# EAGLE library part M.2_KEY-E (library Public)
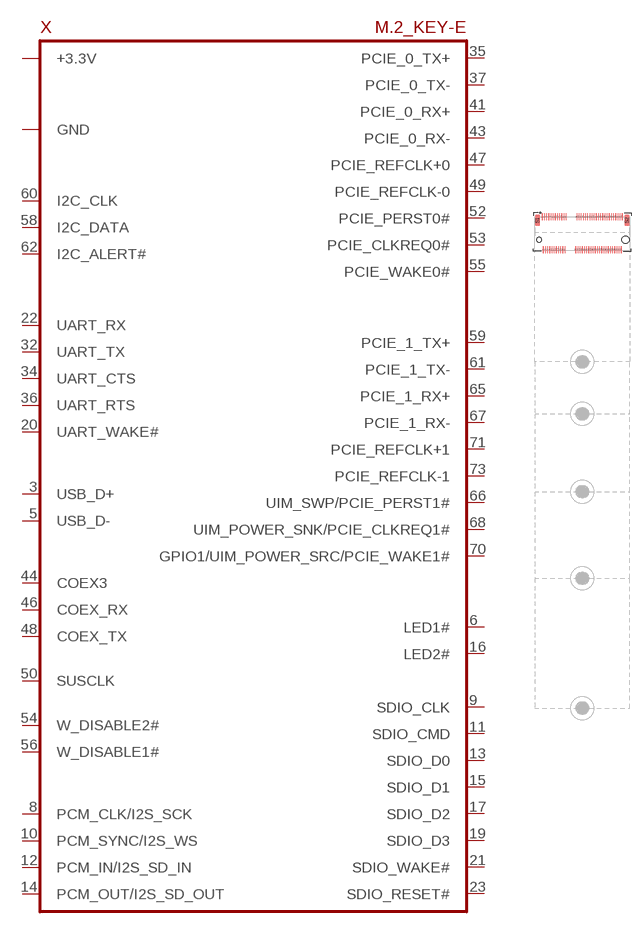
[diagram p138: symbol with the pads of M.2_KEY-E; footprint M.2_KEY-E]

Designator prefix X

## M.2_KEY-E  [M.2_KEY-E]
1  GND
2  +3.3V
3  USB_D+
4  +3.3V
5  USB_D-
6  LED1#
7  GND
8  PCM_CLK/I2S_SCK
9  SDIO_CLK
10  PCM_SYNC/I2S_WS
11  SDIO_CMD
12  PCM_IN/I2S_SD_IN
13  SDIO_D0
14  PCM_OUT/I2S_SD_OUT
15  SDIO_D1
16  LED2#
17  SDIO_D2
18  GND
19  SDIO_D3
20  UART_WAKE#
21  SDIO_WAKE#
22  UART_RX
23  SDIO_RESET#
32  UART_TX
33  GND
34  UART_CTS
35  PCIE_0_TX+
36  UART_RTS
37  PCIE_0_TX-
39  GND
41  PCIE_0_RX+
43  PCIE_0_RX-
44  COEX3
45  GND
46  COEX_RX
47  PCIE_REFCLK+0
48  COEX_TX
49  PCIE_REFCLK-0
50  SUSCLK
51  GND
52  PCIE_PERST0#
53  PCIE_CLKREQ0#
54  W_DISABLE2#
55  PCIE_WAKE0#
56  W_DISABLE1#
57  GND
58  I2C_DATA
59  PCIE_1_TX+
60  I2C_CLK
61  PCIE_1_TX-
62  I2C_ALERT#
63  GND
65  PCIE_1_RX+
66  UIM_SWP/PCIE_PERST1#
67  PCIE_1_RX-
68  UIM_POWER_SNK/PCIE_CLKREQ1#
69  GND
70  GPIO1/UIM_POWER_SRC/PCIE_WAKE1#
71  PCIE_REFCLK+1
72  +3.3V
73  PCIE_REFCLK-1
74  +3.3V
75  GND

## Footprint M.2_KEY-E (pad centres in mm)
smd 0.3 x 1.55: 1 -9.25,5.275; 2 -9,-2.275; 3 -8.75,5.275; 4 -8.5,-2.275; 5 -8.25,5.275; 6 -8,-2.275; 7 -7.75,5.275; 8 -7.5,-2.275; 9 -7.25,5.275; 10 -7,-2.275; 11 -6.75,5.275; 12 -6.5,-2.275; 13 -6.25,5.275; 14 -6,-2.275; 15 -5.75,5.275; 16 -5.5,-2.275; 17 -5.25,5.275; 18 -5,-2.275; 19 -4.75,5.275; 20 -4.5,-2.275; 21 -4.25,5.275; 22 -4,-2.275; 23 -3.75,5.275; 32 -1.5,-2.275; 33 -1.25,5.275; 34 -1,-2.275; 35 -0.75,5.275; 36 -0.5,-2.275; 37 -0.25,5.275; 38 0,-2.275; 39 0.25,5.275; 40 0.5,-2.275; 41 0.75,5.275; 42 1,-2.275; 43 1.25,5.275; 44 1.5,-2.275; 45 1.75,5.275; 46 2,-2.275; 47 2.25,5.275; 48 2.5,-2.275; 49 2.75,5.275; 50 3,-2.275; 51 3.25,5.275; 52 3.5,-2.275; 53 3.75,5.275; 54 4,-2.275; 55 4.25,5.275; 56 4.5,-2.275; 57 4.75,5.275; 58 5,-2.275; 59 5.25,5.275; 60 5.5,-2.275; 61 5.75,5.275; 62 6,-2.275; 63 6.25,5.275; 64 6.5,-2.275; 65 6.75,5.275; 66 7,-2.275; 67 7.25,5.275; 68 7.5,-2.275; 69 7.75,5.275; 70 8,-2.275; 71 8.25,5.275; 72 8.5,-2.275; 73 8.75,5.275; 74 9,-2.275; 75 9.25,5.275
smd 1.2 x 2.75: S1 -10.35,4.5; S2 10.35,4.5
hole 1.15 at -10,0
hole 1.65 at 10,0